# Altium schematic symbol library 2021-07-06_21-38-52.SchLib: 2 symbols
Pins are listed as number, name and electrical type; pins without a type are passive.

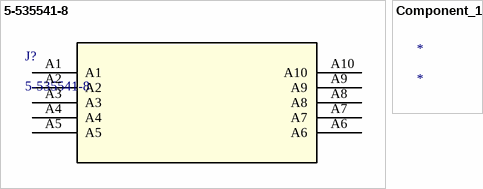
[diagram p0: symbols 5-535541-8 to Component_1]

## 5-535541-8
designator J?
No Description Available; Vendor: TE Connectivity; Built_By: EMA_UL_Team; SourceLibrary: Tyco_2013-08-06_AMP_1Row_535541; Manufacturer_Part_Number: 5-535541-8; Copyright: Copyright (C) 2021 Accelerated Designs. All rights reserved; RefDes: RefDes; Type: DEV
footprint 5-535541-8_TYC
pins: A1, A2, A3, A4, A5, A6, A7, A8, A9, A10

## Component_1
designator *